# Altium footprint library RM_addition.PcbLib: 124 footprints (part 6 of 8)
Each footprint in its own frame and in the unit in brackets; x right, y up, seen from the top. Pads: shape width x height; smd on the part's side, far side on the other; paste and mask are expansions set on the pad; w line width, h text height; cw(c..) or ccw(c..) is an arc to the next point about the centre after c.
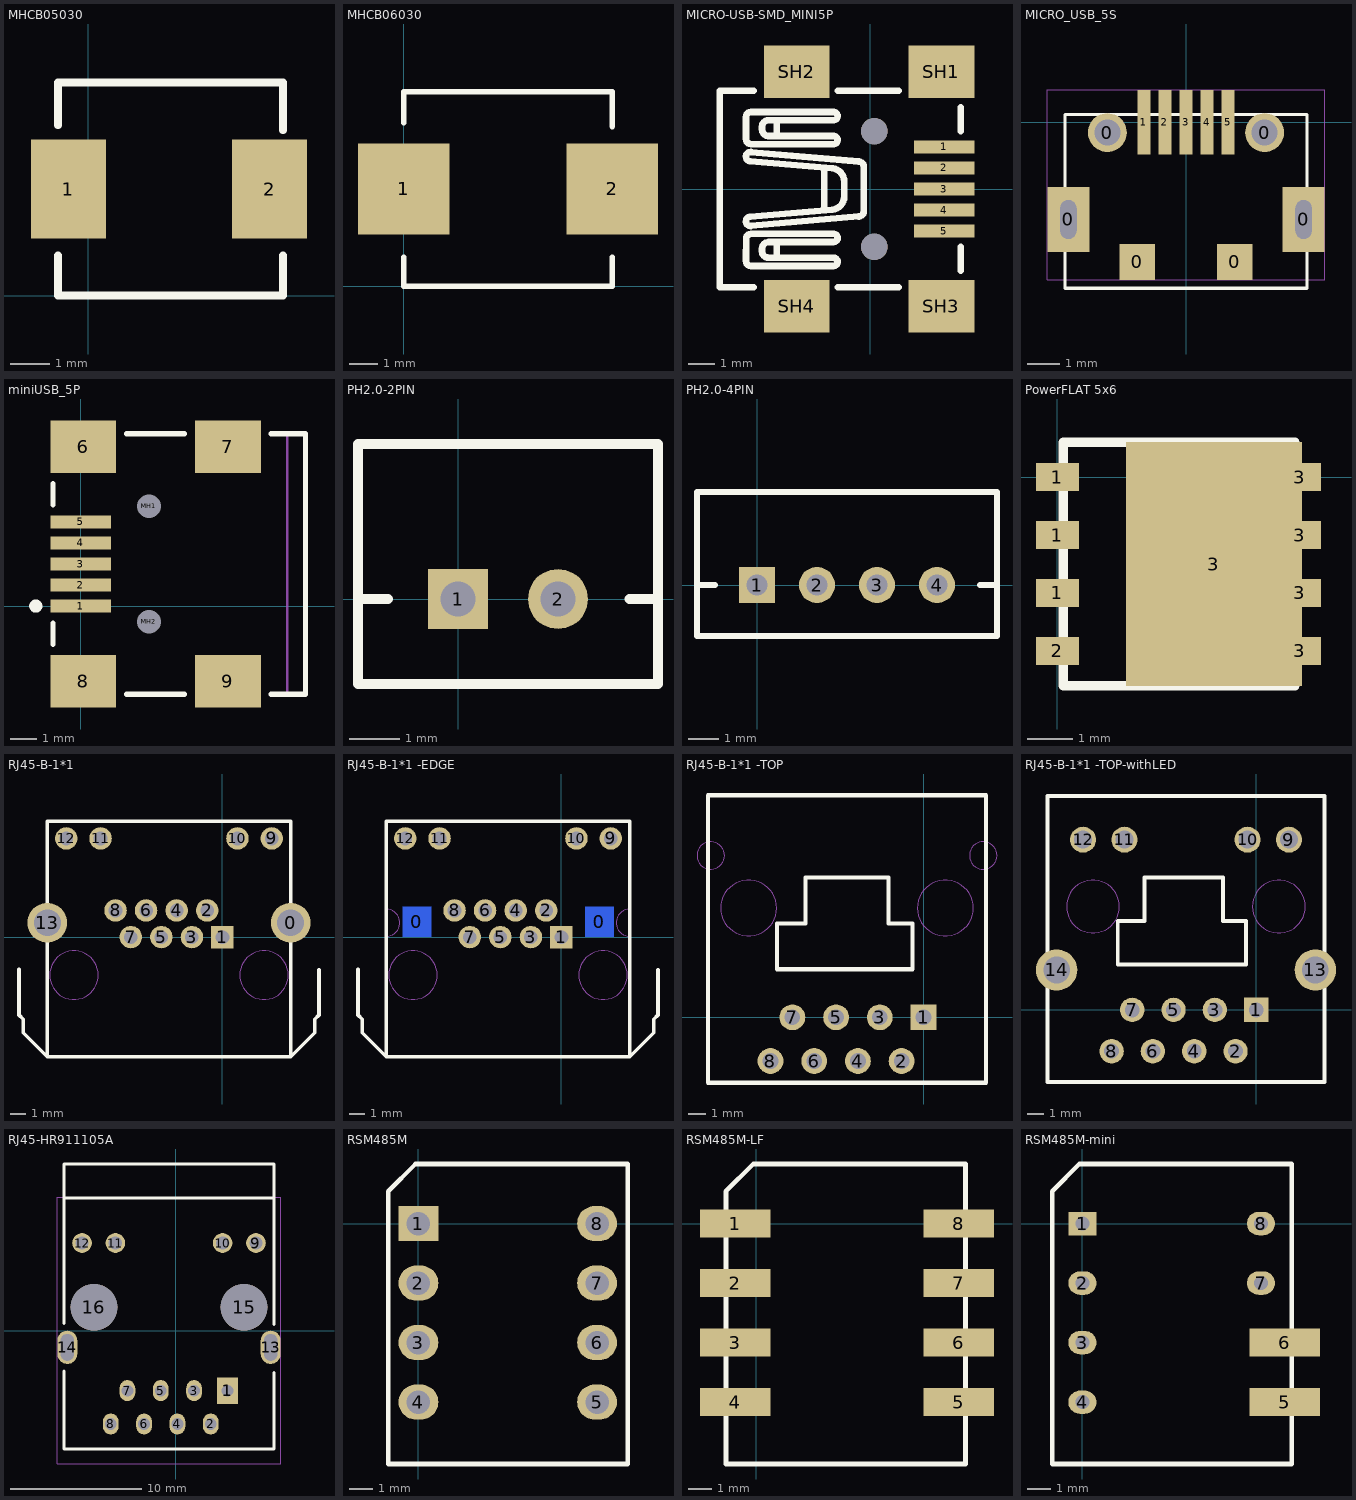
[diagram p5: the footprints below, top view; thin cyan lines are the x and y axes]

## MHCB05030 [mm] "SMD,5.4x5.7x3mm"
height 3
pads (2):
  rect 1.9x2.5 smd: 1(-0.5,2.7) 2(4.6,2.7)
Top Overlay:
  lines w0.2: -0.762,1.016 -0.762,0 4.938,0 4.938,1.016 ; -0.762,4.315 -0.762,5.4 4.938,5.4 4.938,4.188

## MHCB06030 [mm] "SMD,6.8x7.3x2.8mm"
height 3
pads (2):
  rect 3.2x3.2 smd: 1(0,3.4) 2(7.3,3.4)
Top Overlay:
  lines w0.2: 0,1.016 0,0 7.3,0 7.3,1.016 ; 0,5.715 0,6.8 7.3,6.8 7.3,5.588

## MICRO-USB-SMD_MINI5P [mm]
pads (11):
  rect 2.3x0.5 smd: 1(2.8,1.6) 2(2.8,0.8) 3(2.8,0) 4(2.8,-0.8) 5(2.8,-1.6)
  rect 2.5x2 smd: SH1(2.7,4.45) SH2(-2.8,4.45) SH3(2.7,-4.45) SH4(-2.8,-4.45)
  round 1 hole 1 unplated: ""(0.15,-2.2) ""(0.15,2.2)
Top Overlay:
  drawing of 160 lines, arcs and shapes, not listed

## MICRO_USB_5S [mm]
pads (11):
  rect 1.3x2 hole 0.5 slot 1.2 at 90 deg mask+0.05: 0(-3.625,-3) 0(3.625,-3)
  round 1.2 hole 0.8 mask+0.05: 0(-2.425,-0.32) 0(2.425,-0.32)
  rect 1.1x1.1 smd mask+0.05: 0(-1.5,-4.31) 0(1.5,-4.31)
  rect 0.4x2 smd mask+0.05: 1(-1.3,0) 2(-0.65,0) 3(0,0) 4(0.65,0) 5(1.3,0)
Top Overlay:
  lines w0.1: -3.73,-5.12 -3.73,0.235 ; -3.73,-5.12 3.73,-5.12 ; -3.73,-5.12 -3.73,0.235 ; -3.73,-5.12 3.73,-5.12 ; -3.73,0.235 3.73,0.235 ; -3.73,0.235 3.73,0.235 ; 3.73,-5.12 3.73,0.235 ; 3.73,-5.12 3.73,0.235
Mechanical 20:
  lines w0.025: -4.275,-4.86 -4.275,1 4.275,1 4.275,-4.86 -4.275,-4.86

## miniUSB_5P [mm] "Connector; USB2.0, Type AB, SM; 5 Position; Right Angle"
height 3.9
pads (11):
  rect 2.3x0.5 smd: 1(0,0) 2(0,0.8) 3(0,1.6) 4(0,2.4) 5(0,3.2)
  rect 2.5x2 smd: 6(0.1,6.05) 7(5.6,6.05) 8(0.1,-2.85) 9(5.6,-2.85)
  round 0.6 hole 0.9 unplated: MH1(2.6,3.8) MH2(2.6,-0.6)
Top Overlay:
  circle w0.25: c-1.7,0 r0.125
  lines w0.2: -1.05,-1.45 -1.05,-0.65 ; -1.05,3.85 -1.05,4.65 ; 1.75,-3.35 3.95,-3.35 ; 1.75,6.55 3.95,6.55 ; 7.25,-3.35 8.55,-3.35 8.55,6.55 7.25,6.55
Mechanical 1:
  lines w0.1: 7.85,-3.35 7.85,6.55
  text "PCB Edge" at 8.282,-2.436 h0.25

## PH2.0-2PIN [mm] "https://item.szlcsc.com/157334.html"
pads (2):
  rect 1.2x1.2 hole 0.7: 1(0,0)
  round 1.2 hole 0.7: 2(2,0)
Top Overlay:
  lines w0.2: -2,0 -1.397,0 ; 3.429,0 4,0 ; -2,-1.7 4,-1.7 4,3.1 -2,3.1 -2,-1.7

## PH2.0-4PIN [mm] "https://item.szlcsc.com/157334.html"
pads (4):
  rect 1.2x1.2 hole 0.7: 1(0,0)
  round 1.2 hole 0.7: 2(2,0) 3(4,0) 4(6,0)
Top Overlay:
  lines w0.2: -2,0 -1.397,0 ; 7.429,0 8,0 ; -2,-1.7 8,-1.7 8,3.1 -2,3.1 -2,-1.7

## PowerFLAT 5x6 [mm]
pads (9):
  rect 0.94x0.62 smd: 1(0,-2.54) 1(0,-1.27) 1(0,0) 2(0,-3.81) 3(5.31,-3.81) 3(5.31,-2.54) 3(5.31,-1.27) 3(5.31,0)
  rect 3.86x5.35 smd: 3(3.429,-1.905)
Top Layer:
  region: 4.953,0.381 4.953,-4.191 2.032,-4.191 2.032,0.381
Top Overlay:
  lines w0.2: 0.127,-4.572 5.207,-4.572 5.207,0.762 0.127,0.762 0.127,-4.572 ; 3.683,-1.905 ccw(c4,-1.905) 4.318,-1.905 ccw(c4,-1.905) 3.683,-1.905

## RJ45-B-1*1 [mm]
pads (14):
  round 2.642 hole 1.8: 0(4.56,0.96) 13(-11.7,0.96)
  rect 1.499x1.499 hole 0.914: 1(0,0)
  round 1.499 hole 0.914: 2(-1.02,1.78) 3(-2.04,0) 4(-3.06,1.78) 5(-4.08,0) 6(-5.1,1.78) 7(-6.12,0) 8(-7.14,1.78) 9(3.29,6.59) 10(1,6.59) 11(-8.14,6.59) 12(-10.43,6.59)
Top Overlay:
  lines w0.24: -13.589,-2.159 -13.589,-5.207 -13.305,-5.491 -13.305,-6.396 -11.7,-8.001 ; -11.7,-7.985 -11.7,-8.001 ; -11.7,0.96 -11.7,-8.001 ; 4.56,0.96 4.56,-8.001 ; 6.449,-2.187 6.449,-5.207 6.165,-5.491 6.165,-6.396 4.56,-8.001 ; -11.7,-8.001 4.56,-8.001 ; -11.7,-8.001 -11.7,7.749 4.56,7.749 4.56,-8.001
Mechanical 1:
  circle w0.013: c-9.92,-2.54 r1.625
  circle w0.013: c2.78,-2.54 r1.625

## RJ45-B-1*1 -EDGE [mm]
pads (14):
  rect 1.9x2 smd far side: 0(-9.652,1.016) 0(2.54,1.016)
  rect 1.499x1.499 hole 0.914: 1(0,0)
  round 1.499 hole 0.914: 2(-1.02,1.78) 3(-2.04,0) 4(-3.06,1.78) 5(-4.08,0) 6(-5.1,1.78) 7(-6.12,0) 8(-7.14,1.78) 9(3.29,6.59) 10(1,6.59) 11(-8.14,6.59) 12(-10.43,6.59)
Top Overlay:
  lines w0.24: -13.589,-2.159 -13.589,-5.207 -13.305,-5.491 -13.305,-6.396 -11.7,-8.001 ; -11.7,-7.985 -11.7,-8.001 ; -11.7,0.96 -11.7,-8.001 ; 4.56,0.96 4.56,-8.001 ; 6.449,-2.187 6.449,-5.207 6.165,-5.491 6.165,-6.396 4.56,-8.001 ; -11.7,-8.001 -11.7,7.749 4.56,7.749 4.56,-8.001 ; -11.7,-8.001 4.56,-8.001
Mechanical 1:
  circle w0.013: c2.78,-2.54 r1.625
  circle w0.013: c-9.92,-2.54 r1.625
  lines w0.013: -11.7,0.06 ccw(c-11.7,0.96) -11.7,1.86 ; 4.56,0.06 cw(c4.56,0.96) 4.56,1.86

## RJ45-B-1*1 -TOP [mm]
pads (8):
  rect 1.499x1.499 hole 0.914: 1(0,0)
  round 1.499 hole 0.914: 2(-1.27,-2.54) 3(-2.54,0) 4(-3.81,-2.54) 5(-5.08,0) 6(-6.35,-2.54) 7(-7.62,0) 8(-8.89,-2.54)
Top Overlay:
  lines w0.24: -12.53,-3.8 -12.53,12.9 3.64,12.9 3.64,-3.8 -12.53,-3.8 ; -8.509,2.794 -0.635,2.794 -0.635,5.461 -2.032,5.461 -2.032,8.128 -6.858,8.128 -6.858,5.461 -8.509,5.461 -8.509,5.181 -8.509,2.794
Mechanical 1:
  circle w0.013: c1.27,6.35 r1.625
  circle w0.013: c-10.16,6.35 r1.625
  circle w0.013: c3.47,9.4 r0.8
  circle w0.013: c-12.36,9.4 r0.8

## RJ45-B-1*1 -TOP-withLED [mm]
pads (14):
  rect 1.499x1.499 hole 0.914: 1(0,0)
  round 1.499 hole 0.914: 2(-1.27,-2.54) 3(-2.54,0) 4(-3.81,-2.54) 5(-5.08,0) 6(-6.35,-2.54) 7(-7.62,0) 8(-8.89,-2.54)
  round 1.6 hole 1.1: 9(2.01,10.46) 10(-0.53,10.46) 11(-8.1,10.46) 12(-10.64,10.46)
  round 2.54 hole 1.63: 13(3.635,2.45) 14(-12.265,2.45)
Top Overlay:
  lines w0.24: -12.827,-4.445 4.191,-4.445 4.191,13.155 -12.827,13.155 -12.827,-4.445 ; -8.509,2.794 -8.509,5.181 -8.509,5.461 -6.858,5.461 -6.858,8.128 -2.032,8.128 -2.032,5.461 -0.635,5.461 -0.635,2.794 -8.509,2.794
Mechanical 1:
  circle w0.013: c-10.033,6.35 r1.625
  circle w0.013: c1.39,6.35 r1.625

## RJ45-HR911105A [mil]
pads (16):
  rect 62.99x78.74 / inner oval 62.99x78.74 / far side rect 62.99x78.74 hole 35.43 mask+1.97: 1(155.2,-180)
  oval 47.24x62.99 hole 35.43 mask+1.97: 2(105.2,-280) 3(55.2,-180) 4(5.2,-280) 5(-44.8,-180) 6(-94.8,-280) 7(-144.8,-180) 8(-194.8,-280)
  round 59.06 hole 40.16 mask+2.5: 9(240.83,262.91) 10(140.83,262.91) 11(-180.83,262.91) 12(-280.83,262.91)
  oval 60x100 hole 40 slot 80 at 90 deg mask+2.5: 13(285.12,-50.08) 14(-325.12,-50.08)
  round 140 hole 140 unplated mask+2.5: 15(205,70) 16(-245,70)
Top Overlay:
  lines w7.87: -334.96,397.76 294.96,397.76
  lines w10: -334.96,-120.83 -334.96,-355 294.96,-355 294.96,-125.98 ; -334.96,22.64 -334.96,499.92 294.96,499.92 294.96,18.94
Mechanical 20:
  lines w1: -355.12,-400 -355.12,400 315.12,400 315.12,-400 -355.12,-400

## RSM485M [mm]
pads (8):
  rect 1.7x1.5 hole 1: 1(0,0)
  oval 1.7x1.5 hole 1: 2(0,-2.54) 3(0,-5.08) 4(0,-7.62) 5(7.62,-7.62) 6(7.62,-5.08) 7(7.62,-2.54) 8(7.62,0)
Top Overlay:
  lines w0.2: -1.29,-10.26 -1.29,1.377 -0.127,2.54 8.93,2.54 8.93,-10.26 -1.27,-10.26

## RSM485M-LF [mm]
pads (8):
  rect 3x1.2 smd: 1(-0.889,0) 2(-0.889,-2.54) 3(-0.889,-5.08) 4(-0.889,-7.62) 5(8.636,-7.62) 6(8.636,-5.08) 7(8.636,-2.54) 8(8.636,0)
Top Overlay:
  lines w0.2: -1.29,-10.26 -1.29,1.377 -0.127,2.54 8.93,2.54 8.93,-10.26 -1.27,-10.26

## RSM485M-mini [mm]
pads (8):
  rect 1.2x1 hole 0.6: 1(0,0)
  oval 1.2x1 hole 0.6: 2(0,-2.54) 3(0,-5.08) 4(0,-7.62) 7(7.62,-2.54) 8(7.62,0)
  rect 3x1.2 smd: 5(8.636,-7.62) 6(8.636,-5.08)
Top Overlay:
  lines w0.2: -1.29,-10.26 -1.29,1.377 -0.127,2.54 8.93,2.54 8.93,-10.26 -1.27,-10.26